# Altium footprint library LQFP208_28x28X1P4-M.PcbLib: 1 footprints
Each footprint in its own frame and in the unit in brackets; x right, y up, seen from the top. Pads: shape width x height; smd on the part's side, far side on the other; paste and mask are expansions set on the pad; w line width, h text height; cw(c..) or ccw(c..) is an arc to the next point about the centre after c.
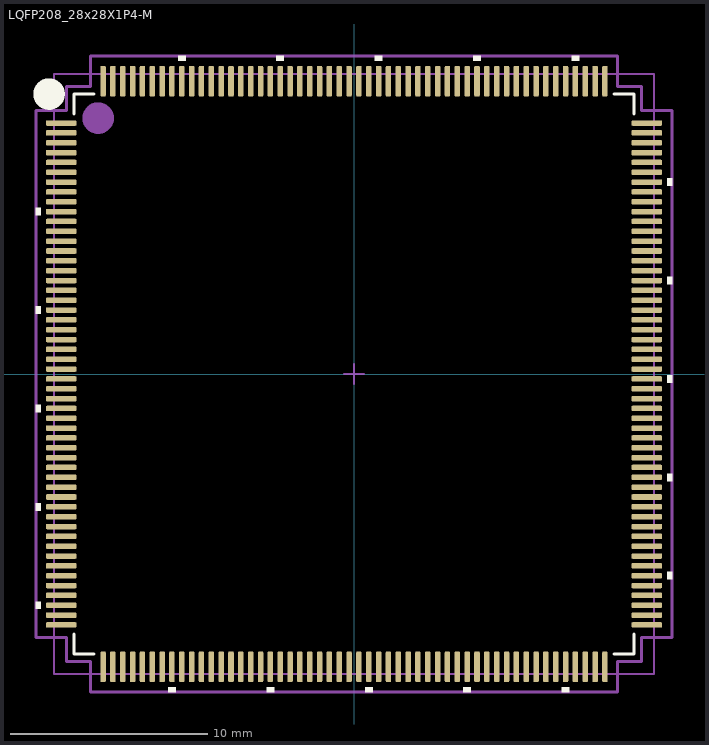
[diagram p0: the footprint, top view; thin cyan lines are the x and y axes]

## LQFP208_28x28X1P4-M [mm]
pads (208):
  rrect50% 1.56x0.28 smd paste+0 mask+0.05: 1(-14.878,12.75) 2(-14.878,12.25) 3(-14.878,11.75) 4(-14.878,11.25) 5(-14.878,10.75) 6(-14.878,10.25) 7(-14.878,9.75) 8(-14.878,9.25) 9(-14.878,8.75) 10(-14.878,8.25) 11(-14.878,7.75) 12(-14.878,7.25) 13(-14.878,6.75) 14(-14.878,6.25) 15(-14.878,5.75) 16(-14.878,5.25) 17(-14.878,4.75) 18(-14.878,4.25) 19(-14.878,3.75) 20(-14.878,3.25) 21(-14.878,2.75) 22(-14.878,2.25) 23(-14.878,1.75) 24(-14.878,1.25) 25(-14.878,0.75) 26(-14.878,0.25) 27(-14.878,-0.25) 28(-14.878,-0.75) 29(-14.878,-1.25) 30(-14.878,-1.75) 31(-14.878,-2.25) 32(-14.878,-2.75) 33(-14.878,-3.25) 34(-14.878,-3.75) 35(-14.878,-4.25) 36(-14.878,-4.75) 37(-14.878,-5.25) 38(-14.878,-5.75) 39(-14.878,-6.25) 40(-14.878,-6.75) 41(-14.878,-7.25) 42(-14.878,-7.75) 43(-14.878,-8.25) 44(-14.878,-8.75) 45(-14.878,-9.25) 46(-14.878,-9.75) 47(-14.878,-10.25) 48(-14.878,-10.75) 49(-14.878,-11.25) 50(-14.878,-11.75) 51(-14.878,-12.25) 52(-14.878,-12.75) 105(14.878,-12.75) 106(14.878,-12.25) 107(14.878,-11.75) 108(14.878,-11.25) 109(14.878,-10.75) 110(14.878,-10.25) 111(14.878,-9.75) 112(14.878,-9.25) 113(14.878,-8.75) 114(14.878,-8.25) 115(14.878,-7.75) 116(14.878,-7.25) 117(14.878,-6.75) 118(14.878,-6.25) 119(14.878,-5.75) 120(14.878,-5.25) 121(14.878,-4.75) 122(14.878,-4.25) 123(14.878,-3.75) 124(14.878,-3.25) 125(14.878,-2.75) 126(14.878,-2.25) 127(14.878,-1.75) 128(14.878,-1.25) 129(14.878,-0.75) 130(14.878,-0.25) 131(14.878,0.25) 132(14.878,0.75) 133(14.878,1.25) 134(14.878,1.75) 135(14.878,2.25) 136(14.878,2.75) 137(14.878,3.25) 138(14.878,3.75) 139(14.878,4.25) 140(14.878,4.75) 141(14.878,5.25) 142(14.878,5.75) 143(14.878,6.25) 144(14.878,6.75) 145(14.878,7.25) 146(14.878,7.75) 147(14.878,8.25) 148(14.878,8.75) 149(14.878,9.25) 150(14.878,9.75) 151(14.878,10.25) 152(14.878,10.75) 153(14.878,11.25) 154(14.878,11.75) 155(14.878,12.25) 156(14.878,12.75)
  rrect50% 0.28x1.56 smd paste+0 mask+0.05: 53(-12.75,-14.878) 54(-12.25,-14.878) 55(-11.75,-14.878) 56(-11.25,-14.878) 57(-10.75,-14.878) 58(-10.25,-14.878) 59(-9.75,-14.878) 60(-9.25,-14.878) 61(-8.75,-14.878) 62(-8.25,-14.878) 63(-7.75,-14.878) 64(-7.25,-14.878) 65(-6.75,-14.878) 66(-6.25,-14.878) 67(-5.75,-14.878) 68(-5.25,-14.878) 69(-4.75,-14.878) 70(-4.25,-14.878) 71(-3.75,-14.878) 72(-3.25,-14.878) 73(-2.75,-14.878) 74(-2.25,-14.878) 75(-1.75,-14.878) 76(-1.25,-14.878) 77(-0.75,-14.878) 78(-0.25,-14.878) 79(0.25,-14.878) 80(0.75,-14.878) 81(1.25,-14.878) 82(1.75,-14.878) 83(2.25,-14.878) 84(2.75,-14.878) 85(3.25,-14.878) 86(3.75,-14.878) 87(4.25,-14.878) 88(4.75,-14.878) 89(5.25,-14.878) 90(5.75,-14.878) 91(6.25,-14.878) 92(6.75,-14.878) 93(7.25,-14.878) 94(7.75,-14.878) 95(8.25,-14.878) 96(8.75,-14.878) 97(9.25,-14.878) 98(9.75,-14.878) 99(10.25,-14.878) 100(10.75,-14.878) 101(11.25,-14.878) 102(11.75,-14.878) 103(12.25,-14.878) 104(12.75,-14.878) 157(12.75,14.878) 158(12.25,14.878) 159(11.75,14.878) 160(11.25,14.878) 161(10.75,14.878) 162(10.25,14.878) 163(9.75,14.878) 164(9.25,14.878) 165(8.75,14.878) 166(8.25,14.878) 167(7.75,14.878) 168(7.25,14.878) 169(6.75,14.878) 170(6.25,14.878) 171(5.75,14.878) 172(5.25,14.878) 173(4.75,14.878) 174(4.25,14.878) 175(3.75,14.878) 176(3.25,14.878) 177(2.75,14.878) 178(2.25,14.878) 179(1.75,14.878) 180(1.25,14.878) 181(0.75,14.878) 182(0.25,14.878) 183(-0.25,14.878) 184(-0.75,14.878) 185(-1.25,14.878) 186(-1.75,14.878) 187(-2.25,14.878) 188(-2.75,14.878) 189(-3.25,14.878) 190(-3.75,14.878) 191(-4.25,14.878) 192(-4.75,14.878) 193(-5.25,14.878) 194(-5.75,14.878) 195(-6.25,14.878) 196(-6.75,14.878) 197(-7.25,14.878) 198(-7.75,14.878) 199(-8.25,14.878) 200(-8.75,14.878) 201(-9.25,14.878) 202(-9.75,14.878) 203(-10.25,14.878) 204(-10.75,14.878) 205(-11.25,14.878) 206(-11.75,14.878) 207(-12.25,14.878) 208(-12.75,14.878)
Top Overlay:
  circle w0.8: c-15.494,14.224 r0.4
  region: -15.913,8.441 -16.167,8.441 -16.167,8.06 -15.913,8.06
  region: -15.913,3.441 -16.167,3.441 -16.167,3.06 -15.913,3.06
  region: -15.913,-1.559 -16.167,-1.559 -16.167,-1.94 -15.913,-1.94
  region: -15.913,-6.559 -16.167,-6.559 -16.167,-6.94 -15.913,-6.94
  region: -15.913,-11.559 -16.167,-11.559 -16.167,-11.94 -15.913,-11.94
  region: -9.059,-15.913 -9.44,-15.913 -9.44,-16.167 -9.059,-16.167
  region: -4.059,-15.913 -4.44,-15.913 -4.44,-16.167 -4.059,-16.167
  region: 0.941,-15.913 0.56,-15.913 0.56,-16.167 0.941,-16.167
  region: 5.941,-15.913 5.56,-15.913 5.56,-16.167 5.941,-16.167
  region: 10.941,-15.913 10.56,-15.913 10.56,-16.167 10.941,-16.167
  region: 15.913,-10.059 16.167,-10.059 16.167,-10.44 15.913,-10.44
  region: 15.913,-5.059 16.167,-5.059 16.167,-5.44 15.913,-5.44
  region: 15.913,-0.059 16.167,-0.059 16.167,-0.44 15.913,-0.44
  region: 15.913,4.941 16.167,4.941 16.167,4.56 15.913,4.56
  region: 15.913,9.941 16.167,9.941 16.167,9.56 15.913,9.56
  region: 11.441,15.913 11.06,15.913 11.06,16.167 11.441,16.167
  region: 6.441,15.913 6.06,15.913 6.06,16.167 6.441,16.167
  region: 1.441,15.913 1.06,15.913 1.06,16.167 1.441,16.167
  region: -3.56,15.913 -3.941,15.913 -3.941,16.167 -3.56,16.167
  region: -8.56,15.913 -8.941,15.913 -8.941,16.167 -8.56,16.167
  lines w0.152: -14.224,-13.222 -14.224,-14.224 -13.222,-14.224 ; -14.224,13.222 -14.224,14.224 -13.222,14.224 ; 13.222,-14.224 14.224,-14.224 14.224,-13.222 ; 13.222,14.224 14.224,14.224 14.224,13.222
Top Assembly:
  circle w0.8: c-13,13 r0.4
  lines w0.1: -0.5,0 0.5,0 ; 0,-0.5 0,0.5
  lines w0.152: -16.167,-13.398 -14.605,-13.398 -14.605,-14.605 -13.398,-14.605 -13.398,-16.167 13.398,-16.167 13.398,-14.605 14.605,-14.605 14.605,-13.398 16.167,-13.398 16.167,13.398 14.605,13.398 14.605,14.605 13.398,14.605 13.398,16.167 -13.398,16.167 -13.398,14.605 -14.605,14.605 -14.605,13.398 -16.167,13.398 -16.167,-13.398
  text "'.Designator'" at -8.633,3.615 h1.52
Top Courtyard:
  lines w0.1: -15.25,-15.25 -15.25,15.25 15.25,15.25 15.25,-15.25 -15.25,-15.25
3D body "LQFP208_28x28X1P4.step": height 1.6, standoff 0, extent -15.1,-15.1 15.1,15.1